# EAGLE library part LTC4000-1 (library kitt.ic)
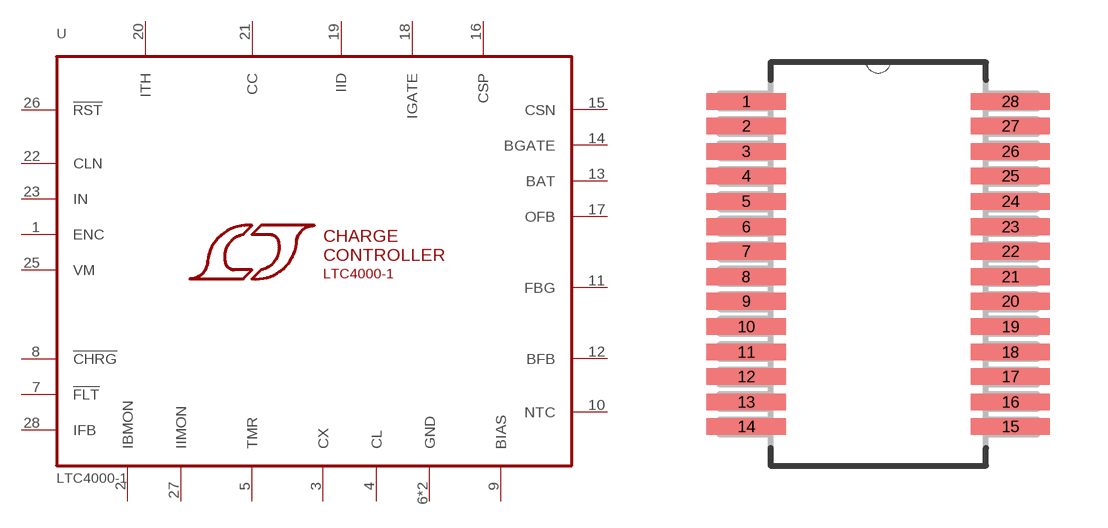
[diagram p8: symbol with the pads of SOIC-LTC4000; footprint SOIC-LTC4000]

Designator prefix U

## LTC4000-1  [SOIC-LTC4000]
1  ENC
2  IBMON
3  CX
4  CL
5  TMR
6  GND
7  !FLT
8  !CHRG
9  BIAS
10  NTC
11  FBG
12  BFB
13  BAT
14  BGATE
15  CSN
16  CSP
17  OFB
18  IGATE
19  IID
20  ITH
21  CC
22  CLN
23  IN
24  GND
25  VM
26  !RST
27  IIMON
28  IFB

## Footprint SOIC-LTC4000 (pad centres in mm)
smd 2.057 x 0.432: 1 -3.429,4.216; 2 -3.429,3.581; 3 -3.429,2.921; 4 -3.429,2.286; 5 -3.429,1.626; 6 -3.429,0.965; 7 -3.429,0.33; 8 -3.429,-0.33; 9 -3.429,-0.965; 10 -3.429,-1.626; 11 -3.429,-2.286; 12 -3.429,-2.921; 13 -3.429,-3.581; 14 -3.429,-4.216; 15 3.429,-4.216; 16 3.429,-3.581; 17 3.429,-2.921; 18 3.429,-2.286; 19 3.429,-1.626; 20 3.429,-0.965; 21 3.429,-0.33; 22 3.429,0.33; 23 3.429,0.965; 24 3.429,1.626; 25 3.429,2.286; 26 3.429,2.921; 27 3.429,3.581; 28 3.429,4.216